# Altium footprint library DMI.PcbLib: 19 footprints (part 2 of 2)
Each footprint in its own frame and in the unit in brackets; x right, y up, seen from the top. Pads: shape width x height; smd on the part's side, far side on the other; paste and mask are expansions set on the pad; w line width, h text height; cw(c..) or ccw(c..) is an arc to the next point about the centre after c.
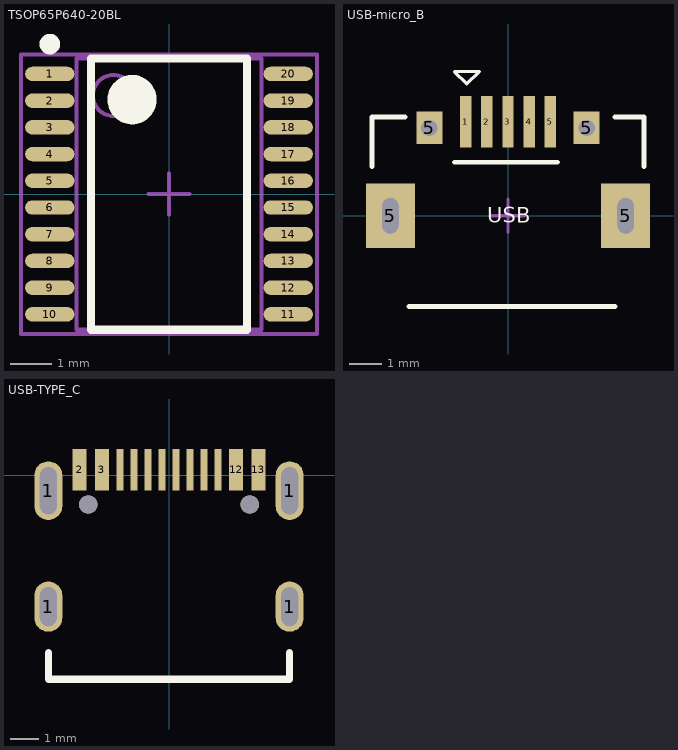
[diagram p1: the footprints below, top view; thin cyan lines are the x and y axes]

## TSOP65P640-20BL [mm] "TSOP, 20-Leads, Body 6.5x4.4mm, Pitch 0.65mm, IPC High Density"
height 1.2
pads (20):
  oval 1.2x0.35 smd: 1(-2.9,2.925) 2(-2.9,2.275) 3(-2.9,1.625) 4(-2.9,0.975) 5(-2.9,0.325) 6(-2.9,-0.325) 7(-2.9,-0.975) 8(-2.9,-1.625) 9(-2.9,-2.275) 10(-2.9,-2.925) 11(2.9,-2.925) 12(2.9,-2.275) 13(2.9,-1.625) 14(2.9,-0.975) 15(2.9,-0.325) 16(2.9,0.325) 17(2.9,0.975) 18(2.9,1.625) 19(2.9,2.275) 20(2.9,2.925)
Top Overlay:
  circle w0.6: c-0.9,2.3 r0.3
  circle w0.25: c-2.9,3.65 r0.125
  lines w0.2: -1.9,-3.3 1.9,-3.3 1.9,3.3 -1.9,3.3 -1.9,-3.3
Mechanical 13:
  circle w0.1: c-1.35,2.4 r0.5
  lines w0.1: -2.25,-3.3 2.25,-3.3 2.25,3.3 -2.25,3.3 -2.25,-3.3
Mechanical 15:
  lines w0.1: -0.5,0 0.5,0 ; 0,-0.5 0,0.5 ; -3.6,-3.4 3.6,-3.4 3.6,3.4 -3.6,3.4 -3.6,-3.4
3D body: height 1.2, standoff 0, extent -2.25,-3.3 2.25,3.3

## USB-micro_B [mm] "micro型USB ，5.7*7.8*2.5mm"
pads (9):
  rect 0.35x1.6 smd: 1(-1.3,2.9) 2(-0.65,2.9) 3(0,2.9) 4(0.65,2.9) 5(1.3,2.9)
  rect 1.5x2 hole 0.5 slot 1.1 at 90 deg: 5(-3.625,0) 5(3.625,0)
  rect 0.8x1 hole 0.5: 5(-2.425,2.71) 5(2.425,2.71)
Top Overlay:
  lines w0.1: -1.651,4.445 -1.27,4.064 -0.889,4.445 -1.651,4.445
  lines w0.152: -4.191,1.524 -4.191,3.048 -3.175,3.048 ; -3.048,-2.794 3.302,-2.794 ; -1.651,1.651 1.524,1.651 ; 3.302,3.048 4.191,3.048 4.191,1.524
  text "USB" at -0.635,-0.381 h0.81
Mechanical 15:
  lines w0.1: -0.508,0 0.508,0 ; 0,-0.508 0,0.508
3D body "USB micro_A.STEP": height 2.8, standoff -0.95, extent -4.001,-2.71 4.001,2.89

## USB-TYPE_C [mm]
pads (16):
  oval 1x1.8 hole 0.6 slot 1.4 at 90 deg: 1(-4.32,-4.7) 1(4.32,-4.7)
  oval 1x2.1 hole 0.6 slot 1.7 at 90 deg: 1(-4.32,-0.55) 1(4.32,-0.55)
  rect 0.5x1.5 smd: 2(-3.2,0.2) 3(-2.4,0.2) 12(2.4,0.2) 13(3.2,0.2)
  rect 0.25x1.5 smd: 4(-1.75,0.2) 5(-1.25,0.2) 6(-0.75,0.2) 7(-0.25,0.2) 8(0.25,0.2) 9(0.75,0.2) 10(1.25,0.2) 11(1.75,0.2)
via 2.89,-1.05 diameter 0.65 hole 0.65
via -2.89,-1.05 diameter 0.65 hole 0.65
Top Overlay:
  lines w0.254: -4.32,-6.352 -4.32,-7.3 4.32,-7.3 4.32,-6.352
3D body: height 3.26, standoff 0, extent -4.32,-7.366 4.32,0.127